# Altium footprint library CN_MicroMatch_12P_8-215079-2.PcbLib: 1 footprints
Each footprint in its own frame and in the unit in brackets; x right, y up, seen from the top. Pads: shape width x height; smd on the part's side, far side on the other; paste and mask are expansions set on the pad; w line width, h text height; cw(c..) or ccw(c..) is an arc to the next point about the centre after c.
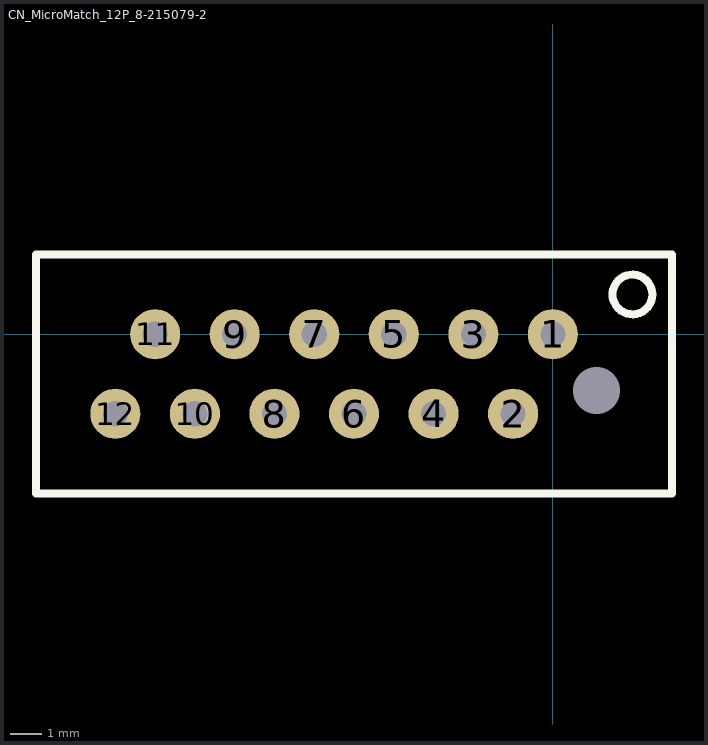
[diagram p0: the footprint, top view; thin cyan lines are the x and y axes]

## CN_MicroMatch_12P_8-215079-2 [mm] "Micromatch 12p, socket, top entry, Tyco"
pads (13):
  round 1.6 hole 0.8: 1(0,0) 2(-1.27,-2.54) 3(-2.54,0) 4(-3.81,-2.54) 5(-5.08,0) 6(-6.35,-2.54) 7(-7.62,0) 8(-8.89,-2.54) 9(-10.16,0) 10(-11.43,-2.54) 11(-12.7,0) 12(-13.97,-2.54)
  round 0 hole 1.5 unplated mask+0.75: ""(1.4,-1.8)
Top Overlay:
  circle w0.254: c2.54,1.27 r0.635
  lines w0.254: -16.51,-5.08 -16.51,2.54 3.81,2.54 3.81,-5.08 -16.51,-5.08
3D body: height 4.02, standoff -2.98, extent -15.585,-3.81 1.585,1.19